# Altium footprint library contador_geiger.PcbLib: 19 footprints (part 2 of 2)
Each footprint in its own frame and in the unit in brackets; x right, y up, seen from the top. Pads: shape width x height; smd on the part's side, far side on the other; paste and mask are expansions set on the pad; w line width, h text height; cw(c..) or ccw(c..) is an arc to the next point about the centre after c.
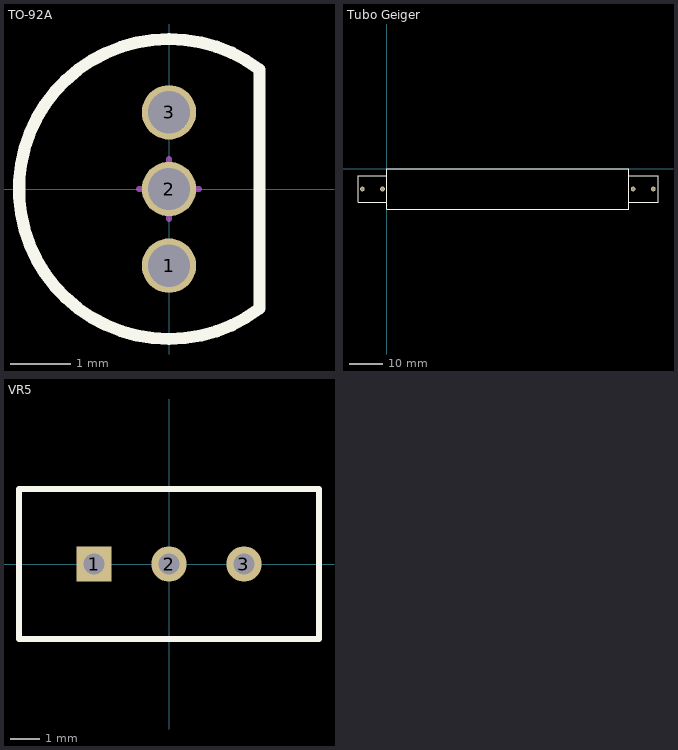
[diagram p1: the footprints below, top view; thin cyan lines are the x and y axes]

## TO-92A [mm] "TO, Flat Index; 3 In-Line, Axial Leads; Body Dia. 4.5mm; Leads 0.51 x 0.48 mm (max)"
height 6.86
pads (3):
  round 0.9 hole 0.7: 1(0,-1.27) 2(0,0) 3(0,1.27)
Top Overlay:
  lines w0.2: 1.5,-1.98 cw(c0,0) 1.5,1.98 1.5,-1.98
Mechanical 13:
  lines w0.1: 1.5,-1.98 cw(c0,0) 1.5,1.98 1.5,-1.98
Mechanical 15:
  lines w0.1: -0.5,0 0.5,0 ; 0,-0.5 0,0.5
3D body "User Library-TO-92-7.step": height 8.5, standoff -4, extent -2.489,-2.525 1.381,2.475

## Tubo Geiger [mm]
pads (4):
  round 1.4 hole 0.8: 1(-7.3,-6) 1(73.3,-6) 2(-1.3,-6) 2(79.3,-6)
Top Overlay:
  lines w0.2: 0,-12 72,-12 72,0 0,0 0,-12
  lines w0.254: 0,-10 -8.6,-10 -8.6,-2 0,-2 ; 72,-10 80.696,-10 80.696,-2 72,-2

## VR5 [mm] "Thru-Hole; 3 Leads"
pads (3):
  rect 1.2x1.2 hole 0.7: 1(-2.54,0)
  round 1.2 hole 0.7: 2(0,0) 3(2.54,0)
Top Overlay:
  lines w0.2: -5.08,-2.54 -5.08,2.54 5.08,2.54 5.08,0 5.08,-2.54 -5.08,-2.54
3D body "trimmerpoti.SLDPRT": height 11.11, standoff -4.63, extent -4.849,-2.542 4.851,2.238